# Altium footprint library Communication.PcbLib: 2 footprints
Each footprint in its own frame and in the unit in brackets; x right, y up, seen from the top. Pads: shape width x height; smd on the part's side, far side on the other; paste and mask are expansions set on the pad; w line width, h text height; cw(c..) or ccw(c..) is an arc to the next point about the centre after c.
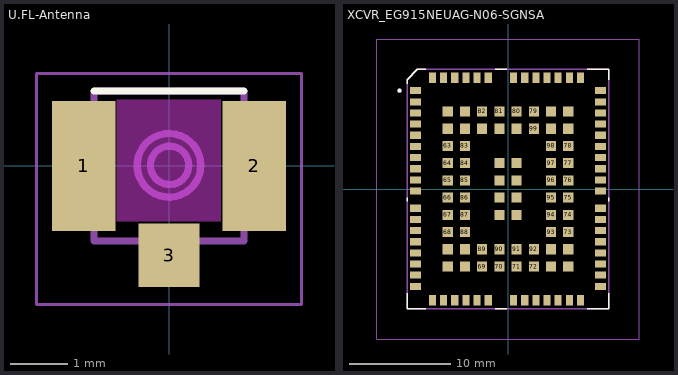
[diagram p0: the footprints below, top view; thin cyan lines are the x and y axes]

## U.FL-Antenna [mm]
pads (3):
  rect 1.1x2.25 smd: 1(-1.475,0) 2(1.475,0)
  rect 1.05x1.1 smd: 3(0,-1.55)
Top Overlay:
  lines w0.127: -1.3,1.3 1.3,1.3
Keep-Out Layer:
  region: 0.9,-0.963 -0.903,-0.963 -0.903,1.15 0.9,1.15
Mechanical 13:
  circle w0.127: c0.01,0.01 r0.332
  circle w0.127: c0,0.01 r0.552
  lines w0.127: -1.33,0.88 -1.33,0.87 -1.57,0.87 -1.57,-0.87 -1.3,-0.87 ; 1.34,-0.87 1.57,-0.87 1.57,0.87 1.38,0.87 ; -1.3,-0.87 -1.3,-1.3 1.3,-1.3 1.3,1.3 -1.3,1.3 -1.3,-0.87
Mechanical 14:
  lines w0.127: 1.34,-0.91 1.34,-0.9
Mechanical 15:
  lines w0.05: -2.3,-2.4 -2.3,1.6 2.3,1.6 2.3,-2.4 -2.3,-2.4
3D body "step_temp.STEP": height 1.25, standoff 0, extent -1.5,-1.55 1.5,1.55

## XCVR_EG915NEUAG-N06-SGNSA [mm]
height 2.6
pads (126):
  rect 1.05x0.7 smd paste-2: 1(-9.125,9.7) 2(-9.125,8.6) 3(-9.125,7.5) 4(-9.125,6.4) 5(-9.125,5.3) 6(-9.125,4.2) 7(-9.125,3.1) 8(-9.125,2) 9(-9.125,0.9) 10(-9.125,-0.2) 11(-9.125,-1.9) 12(-9.125,-3) 13(-9.125,-4.1) 14(-9.125,-5.2) 15(-9.125,-6.3) 16(-9.125,-7.4) 17(-9.125,-8.5) 18(-9.125,-9.6) 32(9.125,-9.6) 33(9.125,-8.5) 34(9.125,-7.4) 35(9.125,-6.3) 36(9.125,-5.2) 37(9.125,-4.1) 38(9.125,-3) 39(9.125,-1.9) 40(9.125,-0.2) 41(9.125,0.9) 42(9.125,2) 43(9.125,3.1) 44(9.125,4.2) 45(9.125,5.3) 46(9.125,6.4) 47(9.125,7.5) 48(9.125,8.6) 49(9.125,9.7)
  rect 0.7x1.05 smd paste-2: 19(-7.45,-10.975) 20(-6.35,-10.975) 21(-5.25,-10.975) 22(-4.15,-10.975) 23(-3.05,-10.975) 24(-1.95,-10.975) 25(0.55,-10.975) 26(1.65,-10.975) 27(2.75,-10.975) 28(3.85,-10.975) 29(4.95,-10.975) 30(6.05,-10.975) 31(7.15,-10.975) 50(7.15,10.975) 51(6.05,10.975) 52(4.95,10.975) 53(3.85,10.975) 54(2.75,10.975) 55(1.65,10.975) 56(0.55,10.975) 57(-1.95,10.975) 58(-3.05,10.975) 59(-4.15,10.975) 60(-5.25,10.975) 61(-6.35,10.975) 62(-7.45,10.975)
  rect 1x1 smd paste-1: 63(-5.95,4.25) 64(-5.95,2.55) 65(-5.95,0.85) 66(-5.95,-0.85) 67(-5.95,-2.55) 68(-5.95,-4.25) 69(-2.55,-7.65) 70(-0.85,-7.65) 71(0.85,-7.65) 72(2.55,-7.65) 73(5.95,-4.25) 74(5.95,-2.55) 75(5.95,-0.85) 76(5.95,0.85) 77(5.95,2.55) 78(5.95,4.25) 79(2.55,7.65) 80(0.85,7.65) 81(-0.85,7.65) 82(-2.55,7.65) 83(-4.25,4.25) 84(-4.25,2.55) 85(-4.25,0.85) 86(-4.25,-0.85) 87(-4.25,-2.55) 88(-4.25,-4.25) 89(-2.55,-5.95) 90(-0.85,-5.95) 91(0.85,-5.95) 92(2.55,-5.95) 93(4.25,-4.25) 94(4.25,-2.55) 95(4.25,-0.85) 96(4.25,0.85) 97(4.25,2.55) 98(4.25,4.25) 99(2.55,5.95) 100(0.85,5.95) 101(-0.85,5.95) 102(-2.55,5.95) 103(-5.95,7.65) 104(-5.95,5.95) 105(-5.95,-5.95) 106(-5.95,-7.65) 107(-4.25,-7.65) 108(4.25,-7.65) 109(5.95,-7.65) 110(5.95,-5.95) 111(5.95,5.95) 112(5.95,7.65) 113(4.25,7.65) 114(-4.25,7.65) 115(-4.25,5.95) 116(-4.25,-5.95) 117(4.25,-5.95) 118(4.25,5.95) 119(-0.85,2.55) 120(-0.85,0.85) 121(-0.85,-0.85) 122(-0.85,-2.55) 123(0.85,-2.55) 124(0.85,-0.85) 125(0.85,0.85) 126(0.85,2.55)
Top Overlay:
  circle w0.2: c-10.7,9.7 r0.1
  lines w0.127: -9.95,-10.27 -9.95,-11.8 -8.12,-11.8 ; -9.95,-1.23 -9.95,-0.87 ; -9.95,10.37 -9.95,10.8 -8.95,11.8 -8.12,11.8 ; -1.28,-11.8 -0.12,-11.8 ; -1.28,11.8 -0.12,11.8 ; 7.82,-11.8 9.95,-11.8 9.95,-10.27 ; 7.82,11.8 9.95,11.8 9.95,10.8 ; 9.95,-1.23 9.95,-0.87
Top Paste:
  drawing of 126 lines, arcs and shapes, not listed
Mechanical 13:
  circle w0.2: c-10.7,9.7 r0.1
  lines w0.127: -9.95,-11.8 9.95,-11.8 9.95,11.8 -8.95,11.8 -9.95,10.8 -9.95,-11.8
Mechanical 15:
  lines w0.05: -12.95,-14.8 -12.95,14.8 12.95,14.8 12.95,-14.8 -12.95,-14.8
3D body "step_temp.STEP": height 2.6, standoff 0, extent -9.95,-11.8 9.95,11.8